# EAGLE library part POLOLUDRV8835 (library me433-2021)
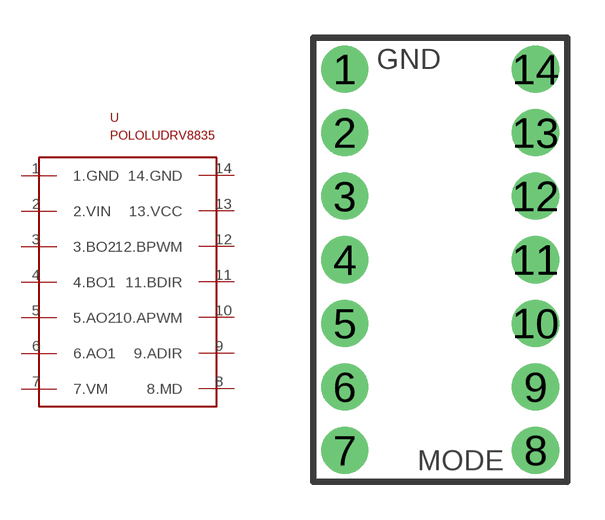
[diagram p8: symbol with the pads of POLOLUDRV8835; footprint POLOLUDRV8835]

Designator prefix -

## POLOLUDRV8835  [POLOLUDRV8835]
1  1.GND
2  2.VIN
3  3.BO2
4  4.BO1
5  5.AO2
6  6.AO1
7  7.VM
8  8.MD
9  9.ADIR
10  10.APWM
11  11.BDIR
12  12.BPWM
13  13.VCC
14  14.GND

## Footprint POLOLUDRV8835 (pad centres in mm)
drill 1.016 pad 1.88: 1 -2.54,3.81; 2 -2.54,1.27; 3 -2.54,-1.27; 4 -2.54,-3.81; 5 -2.54,-6.35; 6 -2.54,-8.89; 7 -2.54,-11.43; 8 5.08,-11.43; 9 5.08,-8.89; 10 5.08,-6.35; 11 5.08,-3.81; 12 5.08,-1.27; 13 5.08,1.27; 14 5.08,3.81